# Altium footprint library HAKATAYA.PcbLib: 227 footprints (part 5 of 15)
Each footprint in its own frame and in the unit in brackets; x right, y up, seen from the top. Pads: shape width x height; smd on the part's side, far side on the other; paste and mask are expansions set on the pad; w line width, h text height; cw(c..) or ccw(c..) is an arc to the next point about the centre after c.
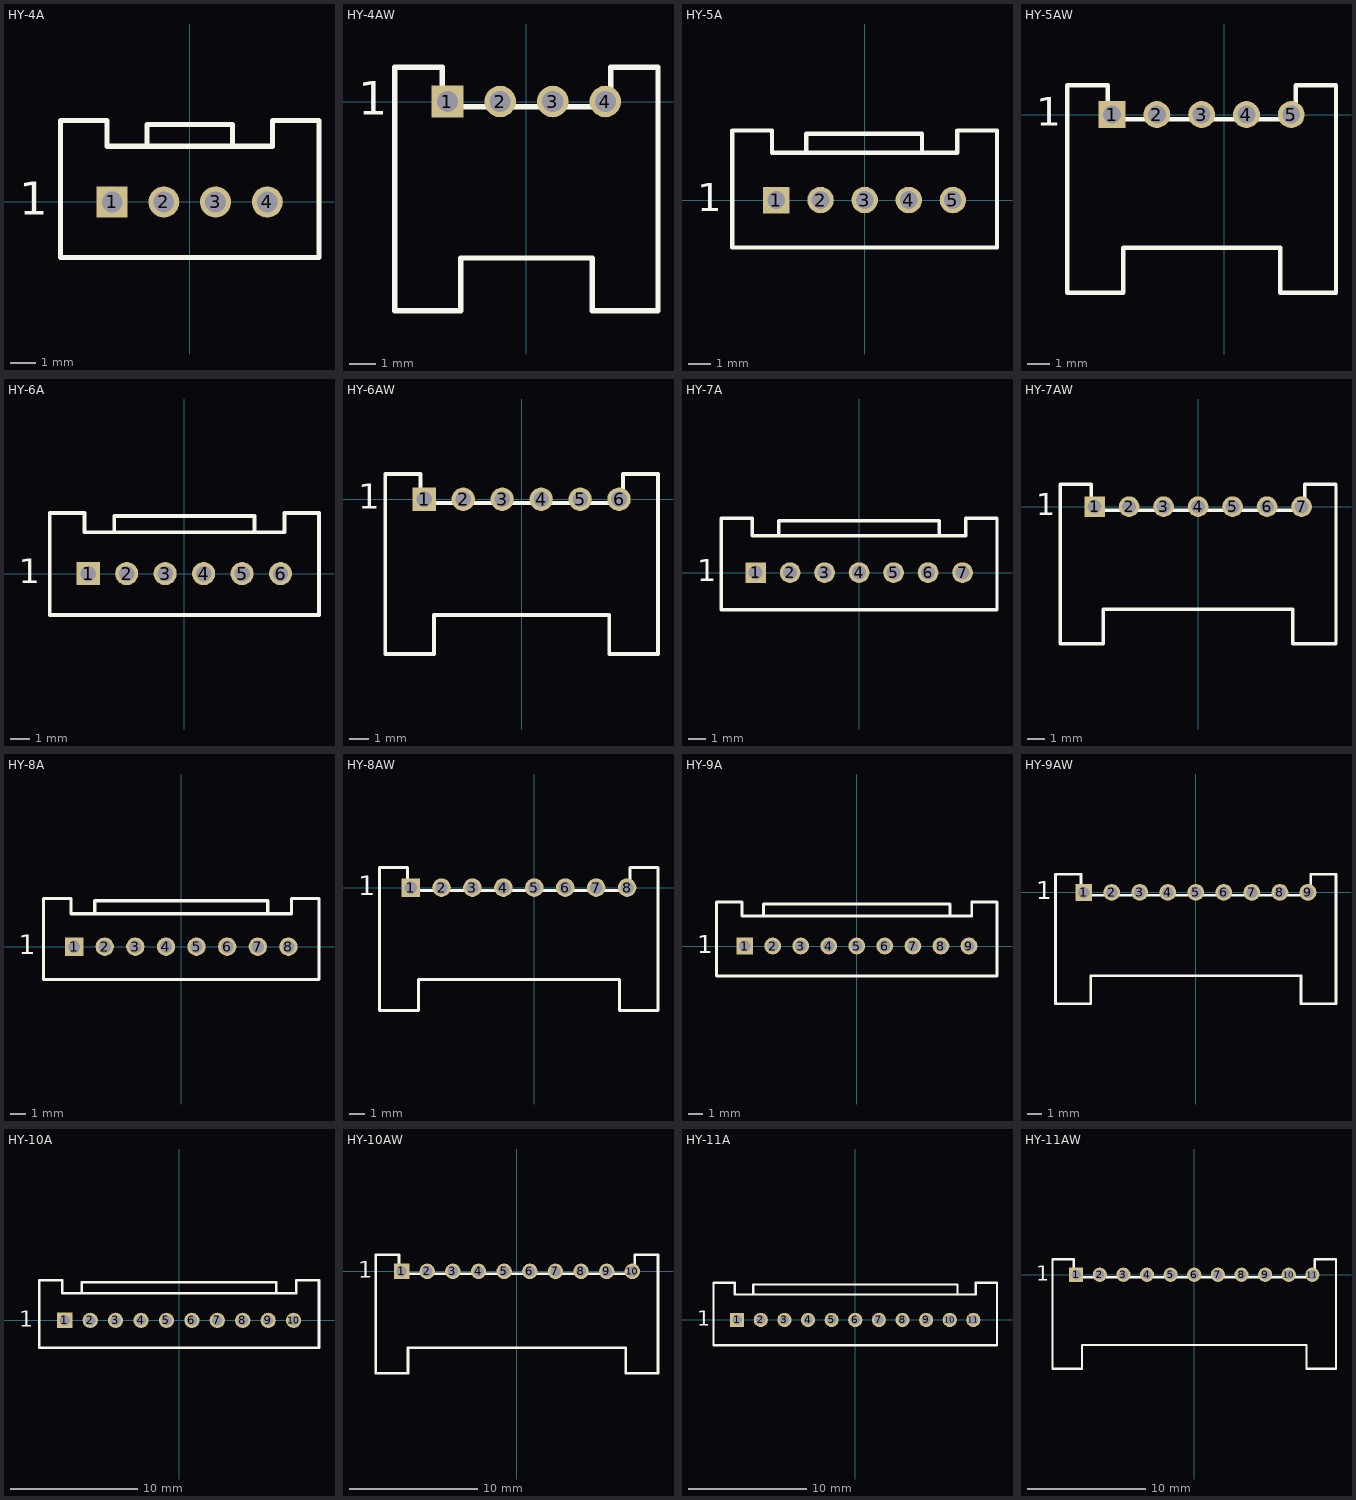
[diagram p4: the footprints below, top view; thin cyan lines are the x and y axes]

## HY-4A [mm] "YOLINK PHB CONNECTOR A2006-xxA 2.00mm"
height 7.8
pads (4):
  rect 1.2x1.2 hole 0.8: 1(-3,0)
  round 1.2 hole 0.8: 2(-1,0) 3(1,0) 4(3,0)
Top Overlay:
  lines w0.2: -1.65,2.15 -1.65,3 1.65,3 1.65,2.15 ; -5,-2.15 5,-2.15 5,3.15 3.2,3.15 3.2,2.15 -3.2,2.15 -3.2,3.15 -5,3.15 -5,-2.15
  text "1" at -6.6,-0.5 h1.27

## HY-4AW [mm] "YOLINK PHB CONNECTOR A2006-xxA 2.00mm"
height 5.1
pads (4):
  rect 1.2x1.2 hole 0.8: 1(-3,0)
  round 1.2 hole 0.8: 2(-1,0) 3(1,0) 4(3,0)
Top Overlay:
  lines w0.2: -5,-7.95 -5,1.3 -3.2,1.3 -3.2,-0.2 3.2,-0.2 3.2,1.3 5,1.3 5,-7.95 2.5,-7.95 2.5,-5.95 -2.5,-5.95 -2.5,-7.95 -5,-7.95
  text "1" at -6.4,-0.5 h1.27

## HY-5A [mm] "YOLINK PHB CONNECTOR A2006-xxA 2.00mm"
height 7.8
pads (5):
  rect 1.2x1.2 hole 0.8: 1(-4,0)
  round 1.2 hole 0.8: 2(-2,0) 3(0,0) 4(2,0) 5(4,0)
Top Overlay:
  lines w0.2: -2.65,2.15 -2.65,3 2.6,3 2.6,2.15 ; -6,-2.15 6,-2.15 6,3.15 4.2,3.15 4.2,2.15 -4.2,2.15 -4.2,3.15 -6,3.15 -6,-2.15
  text "1" at -7.6,-0.5 h1.27

## HY-5AW [mm] "YOLINK PHB CONNECTOR A2006-xxA 2.00mm"
height 5.1
pads (5):
  rect 1.2x1.2 hole 0.8: 1(-5,0)
  round 1.2 hole 0.8: 2(-3,0) 3(-1,0) 4(1,0) 5(3,0)
Top Overlay:
  lines w0.2: -7,-7.95 -7,1.3 -5.2,1.3 -5.2,-0.2 3.2,-0.2 3.2,1.3 5,1.3 5,-7.95 2.5,-7.95 2.5,-5.95 -4.5,-5.95 -4.5,-7.95 -7,-7.95
  text "1" at -8.4,-0.5 h1.27

## HY-6A [mm] "YOLINK PHB CONNECTOR A2006-xxA 2.00mm"
height 7.8
pads (6):
  rect 1.2x1.2 hole 0.8: 1(-5,0)
  round 1.2 hole 0.8: 2(-3,0) 3(-1,0) 4(1,0) 5(3,0) 6(5,0)
Top Overlay:
  lines w0.2: -3.65,2.15 -3.65,3 3.65,3 3.65,2.15 ; -7,-2.15 -7,3.15 -5.2,3.15 -5.2,2.15 5.2,2.15 5.2,3.15 7,3.15 7,-2.15 -7,-2.15
  text "1" at -8.6,-0.5 h1.27

## HY-6AW [mm] "YOLINK PHB CONNECTOR A2006-xxA 2.00mm"
height 5.1
pads (6):
  rect 1.2x1.2 hole 0.8: 1(-5,0)
  round 1.2 hole 0.8: 2(-3,0) 3(-1,0) 4(1,0) 5(3,0) 6(5,0)
Top Overlay:
  lines w0.2: -7,-7.95 -7,1.3 -5.2,1.3 -5.2,-0.2 5.2,-0.2 5.2,1.3 7,1.3 7,-7.95 4.5,-7.95 4.5,-5.95 -4.5,-5.95 -4.5,-7.95 -7,-7.95
  text "1" at -8.4,-0.5 h1.27

## HY-7A [mm] "YOLINK PHB CONNECTOR A2006-xxA 2.00mm"
height 7.8
pads (7):
  rect 1.2x1.2 hole 0.8: 1(-6,0)
  round 1.2 hole 0.8: 2(-4,0) 3(-2,0) 4(0,0) 5(2,0) 6(4,0) 7(6,0)
Top Overlay:
  lines w0.2: -4.65,2.15 -4.65,3 4.65,3 4.65,2.15 ; -8,-2.15 -8,3.15 -6.2,3.15 -6.2,2.15 6.2,2.15 6.2,3.15 8,3.15 8,-2.15 -8,-2.15
  text "1" at -9.4,-0.5 h1.27

## HY-7AW [mm] "YOLINK PHB CONNECTOR A2006-xxA 2.00mm"
height 5.1
pads (7):
  rect 1.2x1.2 hole 0.8: 1(-6,0)
  round 1.2 hole 0.8: 2(-4,0) 3(-2,0) 4(0,0) 5(2,0) 6(4,0) 7(6,0)
Top Overlay:
  lines w0.2: -8,-7.95 -8,1.3 -6.2,1.3 -6.2,-0.2 6.2,-0.2 6.2,1.3 8,1.3 8,-7.95 5.5,-7.95 5.5,-5.95 -5.5,-5.95 -5.5,-7.95 -8,-7.95
  text "1" at -9.4,-0.5 h1.27

## HY-8A [mm] "YOLINK PHB CONNECTOR A2006-xxA 2.00mm"
height 7.8
pads (8):
  rect 1.2x1.2 hole 0.8: 1(-7,0)
  round 1.2 hole 0.8: 2(-5,0) 3(-3,0) 4(-1,0) 5(1,0) 6(3,0) 7(5,0) 8(7,0)
Top Overlay:
  lines w0.2: -5.65,2.15 -5.65,3 5.65,3 5.65,2.15 ; -9,-2.15 9,-2.15 9,3.15 7.2,3.15 7.2,2.15 -7.2,2.15 -7.2,3.15 -9,3.15 -9,-2.15
  text "1" at -10.6,-0.5 h1.27

## HY-8AW [mm] "YOLINK PHB CONNECTOR A2006-xxA 2.00mm"
height 5.1
pads (8):
  rect 1.2x1.2 hole 0.8: 1(-8,0)
  round 1.2 hole 0.8: 2(-6,0) 3(-4,0) 4(-2,0) 5(0,0) 6(2,0) 7(4,0) 8(6,0)
Top Overlay:
  lines w0.2: -10,-7.95 -10,1.3 -8.2,1.3 -8.2,-0.2 6.2,-0.2 6.2,1.3 8,1.3 8,-7.95 5.5,-7.95 5.5,-5.95 -7.5,-5.95 -7.5,-7.95 -10,-7.95
  text "1" at -11.4,-0.5 h1.27

## HY-9A [mm] "YOLINK PHB CONNECTOR A2006-xxA 2.00mm"
height 7.8
pads (9):
  rect 1.2x1.2 hole 0.8: 1(-8,0)
  round 1.2 hole 0.8: 2(-6,0) 3(-4,0) 4(-2,0) 5(0,0) 6(2,0) 7(4,0) 8(6,0) 9(8,0)
Top Overlay:
  lines w0.2: -6.65,2.15 -6.65,3 6.65,3 6.65,2.15 ; -10,-2.15 -10,3.15 -8.2,3.15 -8.2,2.15 8.2,2.15 8.2,3.15 10,3.15 10,-2.15 -10,-2.15
  text "1" at -11.4,-0.5 h1.27

## HY-9AW [mm] "YOLINK PHB CONNECTOR A2006-xxA 2.00mm"
height 5.1
pads (9):
  rect 1.2x1.2 hole 0.8: 1(-8,0)
  round 1.2 hole 0.8: 2(-6,0) 3(-4,0) 4(-2,0) 5(0,0) 6(2,0) 7(4,0) 8(6,0) 9(8,0)
Top Overlay:
  lines w0.2: -10,-7.95 -10,1.3 -8.2,1.3 -8.2,-0.2 8.2,-0.2 8.2,1.3 10,1.3 10,-7.95 7.5,-7.95 7.5,-5.95 -7.5,-5.95 -7.5,-7.95 -10,-7.95
  text "1" at -11.4,-0.5 h1.27

## HY-10A [mm] "YOLINK PHB CONNECTOR A2006-xxA 2.00mm"
height 7.8
pads (10):
  rect 1.2x1.2 hole 0.8: 1(-9,0)
  round 1.2 hole 0.8: 2(-7,0) 3(-5,0) 4(-3,0) 5(-1,0) 6(1,0) 7(3,0) 8(5,0) 9(7,0) 10(9,0)
Top Overlay:
  lines w0.2: -7.65,2.15 -7.65,3 7.65,3 7.65,2.15 ; -11,-2.15 -11,3.15 -9.2,3.15 -9.2,2.15 9.2,2.15 9.2,3.15 11,3.15 11,-2.15 -11,-2.15
  text "1" at -12.6,-0.5 h1.27

## HY-10AW [mm] "YOLINK PHB CONNECTOR A2006-xxA 2.00mm"
height 5.1
pads (10):
  rect 1.2x1.2 hole 0.8: 1(-9,0)
  round 1.2 hole 0.8: 2(-7,0) 3(-5,0) 4(-3,0) 5(-1,0) 6(1,0) 7(3,0) 8(5,0) 9(7,0) 10(9,0)
Top Overlay:
  lines w0.2: -11,-7.95 -11,1.3 -9.2,1.3 -9.2,-0.2 9.2,-0.2 9.2,1.3 11,1.3 11,-7.95 8.5,-7.95 8.5,-5.95 -8.5,-5.95 -8.5,-7.95 -11,-7.95
  text "1" at -12.4,-0.5 h1.27

## HY-11A [mm] "YOLINK PHB CONNECTOR A2006-xxA 2.00mm"
height 7.8
pads (11):
  rect 1.2x1.2 hole 0.8: 1(-10,0)
  round 1.2 hole 0.8: 2(-8,0) 3(-6,0) 4(-4,0) 5(-2,0) 6(0,0) 7(2,0) 8(4,0) 9(6,0) 10(8,0) 11(10,0)
Top Overlay:
  lines w0.2: -8.65,2.15 -8.65,3 8.65,3 8.65,2.15 ; -12,-2.15 12,-2.15 12,3.15 10.2,3.15 10.2,2.15 -10.2,2.15 -10.2,3.15 -12,3.15 -12,-2.15
  text "1" at -13.4,-0.5 h1.27

## HY-11AW [mm] "YOLINK PHB CONNECTOR A2006-xxA 2.00mm"
height 5.1
pads (11):
  rect 1.2x1.2 hole 0.8: 1(-10,0)
  round 1.2 hole 0.8: 2(-8,0) 3(-6,0) 4(-4,0) 5(-2,0) 6(0,0) 7(2,0) 8(4,0) 9(6,0) 10(8,0) 11(10,0)
Top Overlay:
  lines w0.2: -12,-7.95 -12,1.3 -10.2,1.3 -10.2,-0.2 10.2,-0.2 10.2,1.3 12,1.3 12,-7.95 9.5,-7.95 9.5,-5.95 -9.5,-5.95 -9.5,-7.95 -12,-7.95
  text "1" at -13.4,-0.5 h1.27